# Altium footprint library CSD18514Q5A.PcbLib: 1 footprints
Each footprint in its own frame and in the unit in brackets; x right, y up, seen from the top. Pads: shape width x height; smd on the part's side, far side on the other; paste and mask are expansions set on the pad; w line width, h text height; cw(c..) or ccw(c..) is an arc to the next point about the centre after c.
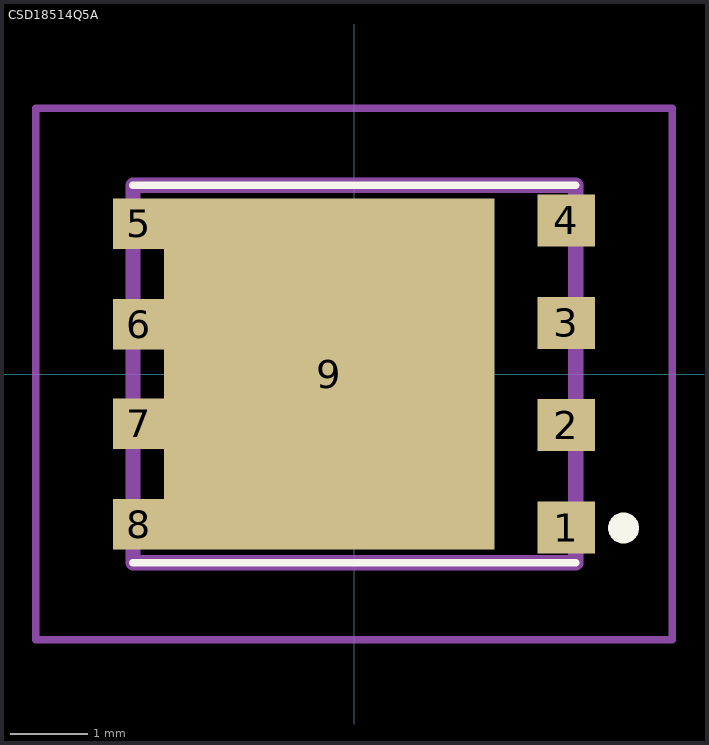
[diagram p0: the footprint, top view; thin cyan lines are the x and y axes]

## CSD18514Q5A [mm]
pads (9):
  rect 0.75x0.675 smd: 1(2.757,-1.995) 2(2.757,-0.665) 3(2.757,0.665) 4(2.757,1.995)
  rect 0.675x0.655 smd: 5(-2.795,1.952) 6(-2.795,0.647) 7(-2.795,-0.647) 8(-2.795,-1.952)
  rect 4.295x4.56 smd: 9(-0.32,0)
Top Overlay:
  lines w0.1: -2.87,-2.45 2.88,-2.45 ; -2.87,2.45 2.88,2.45
  lines w0.2: 3.5,-2.1 cw(c3.5,-2) 3.5,-1.9 ; 3.5,-2.1 3.5,-2.1 ; 3.5,-2.1 ccw(c3.5,-2) 3.5,-1.9 ; 3.5,-1.9 3.5,-1.9
Mechanical 15:
  lines w0.2: -2.87,-2.45 2.88,-2.45 2.88,2.45 -2.87,2.45 -2.87,-2.45
Mechanical 20:
  lines w0.1: -4.132,-3.45 4.132,-3.45 4.132,3.45 -4.132,3.45 -4.132,-3.45